# EAGLE library part RELAY (library - Jins eagle lbr)
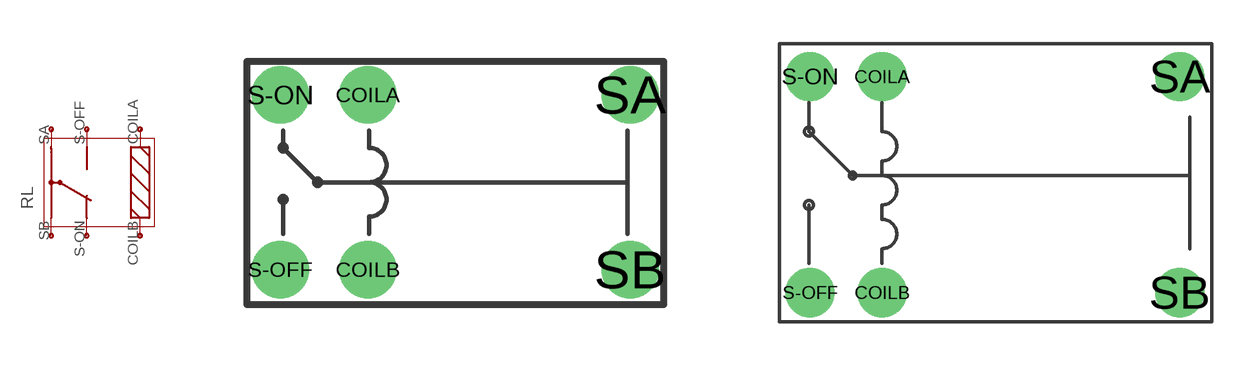
[diagram p3: symbol with the pads of REL-G5V1; footprints REL-G5V1, REL-HK4100F]

Designator prefix RL

## RELAY-1A  [REL-G5V1]
COILA  COILA  pas
COILB  COILB  pas
S-OFF  OFF  pas
S-ON  ON  pas
SA  SWA  pas
SB  SWB  pas

## RELAY-3A  [REL-HK4100F]
Pads as for REL-G5V1

## Footprint REL-G5V1 (pad centres in mm)
drill 0.813 pad 1.676: COILA -2.54,2.54; COILB -2.54,-2.54; S-OFF -5.08,-2.54; S-ON -5.08,2.54; SA 5.08,2.54; SB 5.08,-2.54

## Footprint REL-HK4100F (pad centres in mm)
drill 0.813 pad 1.676: COILA -4,4.38; COILB -4,-3; S-OFF -6.46,-3; S-ON -6.46,4.38; SA 6.16,4.38; SB 6.16,-3